# Altium schematic symbol library LASER_DIAGNOSTIC_BOARD.SCHLIB: 37 symbols
Pins are listed as number, name and electrical type; pins without a type are passive.

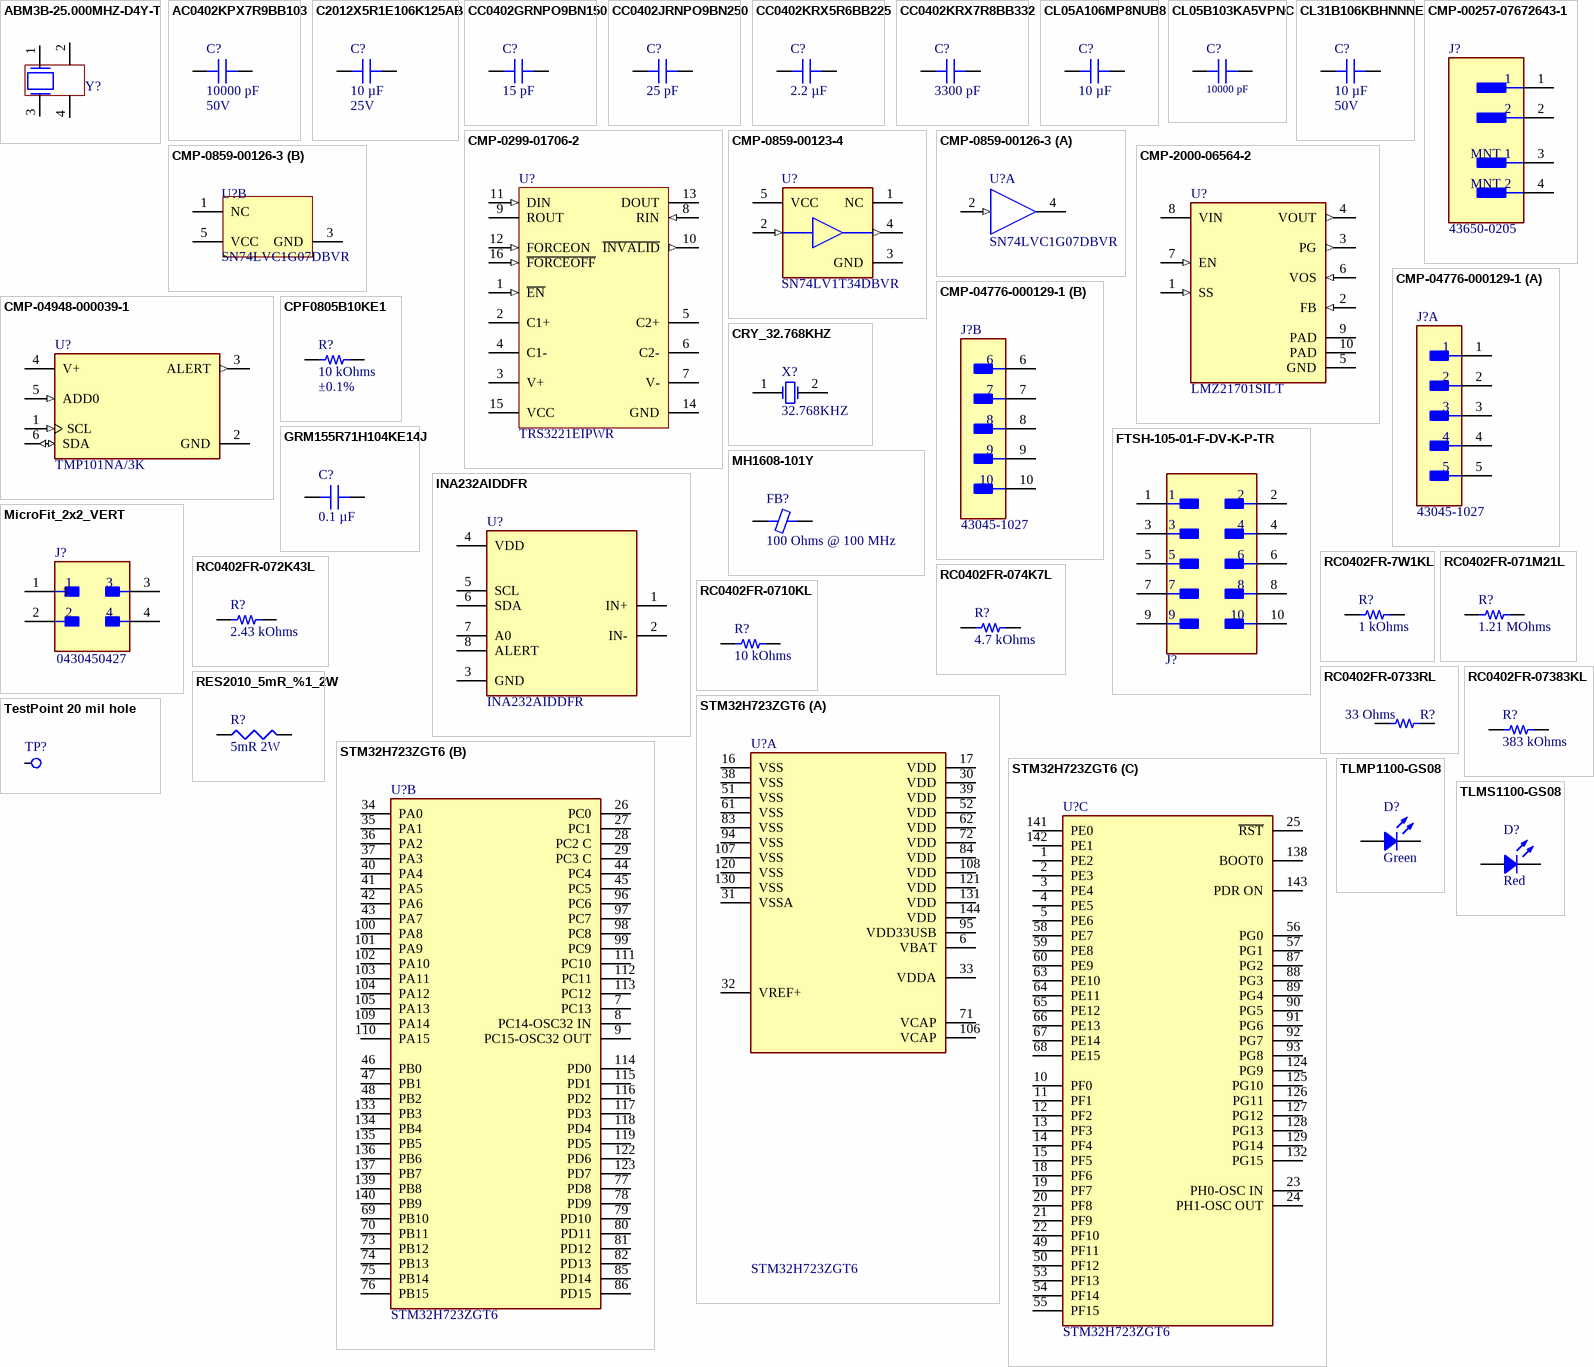
[diagram p0: symbols ABM3B-25.000MHZ-D4Y-T to TLMS1100-GS08]

## ABM3B-25.000MHZ-D4Y-T
designator Y?, comment CRYSTAL 25.0000MHZ 18PF SMD  (value not drawn)
25 MHz ±30ppm Crystal 18pF 50 Ohms 4-SMD, No Lead; Manufacturer Part Number: ABM3B-25.000MHZ-D4Y-T
footprint ABM3B8000MHZ101UT
pins: 1, 2, 3, 4

## AC0402KPX7R9BB103
designator C?, comment Voltage - Rated: 50V  (hidden comment: 10000 pF)
CAP CER 10000PF 50V X7R 0402; Part Number: AC0402KPX7R9BB103; manufacturer: Yageo; Tolerance: ±10%; Value: 10000 pF; Applications: Automotive; Capacitance: 10000 pF; componentlink1description: Datasheet; componentlink1url: http://www.yageo.com/documents/recent/UPY-AC_NP0X7R_16V-to-630V_12.pdf; componentlink2description: DigiKey Link; componentlink2url: https://www.digikey.com/en/products/detail/yageo/AC0402KPX7R9BB103/6643253; Device Package: 0402 (1005 Metric); lastupdated: 2/9/2024 8:04:36 PM; Lifecycle Status: Active; Minimum Order: 1; Mounting Type: Surface Mount, MLCC; Operating Temperature: -55°C ~ 125°C; Package / Case: 0402 (1005 Metric); packaging: TapeAndReel; partid: 2384; Part Status: Active; price: 0.01; Ratings: AEC-Q200; series: AC; Size / Dimension: 0.039" L x 0.020" W (1.00mm x 0.50mm); Supplier 1: DigiKey; Supplier Part Number 1: 311-3267-1-ND; Temperature Coefficient: X7R; Thickness (Max): 0.022" (0.55mm)
footprint CAP 0402_1005
pins: 1, 2

## C2012X5R1E106K125AB
designator C?, comment Voltage - Rated: 25V  (hidden comment: 10 µF)
CAP CER 10UF 25V X5R 0805; Part Number: C2012X5R1E106K125AB; manufacturer: TDK Corporation; Tolerance: ±10%; Value: 10 µF; Applications: General Purpose; Capacitance: 10 µF; componentlink1description: Datasheet; componentlink1url: https://product.tdk.com/info/en/catalog/datasheets/mlcc_commercial_general_en.pdf?ref_disty=digikey; componentlink2description: DigiKey Link; componentlink2url: https://www.digikey.com/en/products/detail/tdk-corporation/C2012X5R1E106K125AB/2443462; Device Package: 0805 (2012 Metric); Features: Low ESL; lastupdated: 5.05.2023 19:16:43; Lifecycle Status: Active; Minimum Order: 1; Mounting Type: Surface Mount, MLCC; Operating Temperature: -55°C ~ 85°C; Package / Case: 0805 (2012 Metric); packaging: TapeAndReel; partid: 4850; Part Status: Active; price: 0.06; series: C; Size / Dimension: 0.079" L x 0.049" W (2.00mm x 1.25mm); Supplier 1: DigiKey; Supplier Part Number 1: 445-5984-1-ND; Temperature Coefficient: X5R; Thickness (Max): 0.057" (1.45mm)
footprint CAP 0805_2012
pins: 1, 2

## CC0402GRNPO9BN150
designator C?, comment 15 pF
CAP CER 15PF 50V C0G/NPO 0402; Part Number: CC0402GRNPO9BN150; manufacturer: Yageo; Temperature Coefficient: C0G, NP0; Tolerance: ±2%; Value: 15 pF; Applications: General Purpose; Capacitance: 15 pF; componentlink1description: Datasheet; componentlink1url: https://www.yageo.com/upload/media/product/productsearch/datasheet/mlcc/UPY-GP_NP0_16V-to-50V_17.pdf; componentlink2description: DigiKey Link; componentlink2url: https://www.digikey.com/en/products/detail/yageo/CC0402GRNPO9BN150/5195058; Device Package: 0402 (1005 Metric); lastupdated: 2/9/2024 8:04:37 PM; Lifecycle Status: Active; Minimum Order: 10; Mounting Type: Surface Mount, MLCC; Operating Temperature: -55°C ~ 125°C; Package / Case: 0402 (1005 Metric); packaging: TapeAndReel; partid: 1901; Part Status: Active; price: 0.01; series: CC; Size / Dimension: 0.039" L x 0.020" W (1.00mm x 0.50mm); Supplier 1: DigiKey; Supplier Part Number 1: 311-1649-1-ND; Thickness (Max): 0.022" (0.55mm); Voltage - Rated: 50V
footprint CAP 0402_1005
pins: 1, 2

## CC0402JRNPO9BN250
designator C?, comment 25 pF
CAP CER 25PF 50V C0G/NPO 0402; Part Number: CC0402JRNPO9BN250; manufacturer: Yageo; Temperature Coefficient: C0G, NP0; Tolerance: ±5%; Value: 25 pF; Applications: General Purpose; Capacitance: 25 pF; componentlink1description: Datasheet; componentlink1url: https://www.yageo.com/upload/media/product/productsearch/datasheet/mlcc/UPY-GP_NP0_16V-to-50V_18.pdf; componentlink2description: DigiKey Link; componentlink2url: https://www.digikey.com/en/products/detail/yageo/CC0402JRNPO9BN250/11490290; Device Package: 0402 (1005 Metric); lastupdated: 2/9/2024 8:03:30 PM; Lifecycle Status: Active; Minimum Order: 10; Mounting Type: Surface Mount, MLCC; Operating Temperature: -55°C ~ 125°C; Package / Case: 0402 (1005 Metric); packaging: TapeAndReel; partid: 54610; Part Status: Active; price: 0.01; series: CC; Size / Dimension: 0.039" L x 0.020" W (1.00mm x 0.50mm); Supplier 1: DigiKey; Supplier Part Number 1: 13-CC0402JRNPO9BN250CT-ND; Voltage - Rated: 50V
footprint CAP 0402_1005
pins: 1, 2

## CC0402KRX5R6BB225
designator C?, comment 2.2 µF
CAP CER 2.2UF 10V X5R 0402; Part Number: CC0402KRX5R6BB225; manufacturer: Yageo; Tolerance: ±10%; Value: 2.2 µF; Applications: General Purpose; Capacitance: 2.2 µF; componentlink1description: Datasheet; componentlink1url: https://www.yageo.com/upload/media/product/productsearch/datasheet/mlcc/UPY-GPHC_X5R_4V-to-50V_25.pdf; componentlink2description: DigiKey Link; componentlink2url: https://www.digikey.com/en/products/detail/yageo/CC0402KRX5R6BB225/5195095; Device Package: 0402 (1005 Metric); lastupdated: 2/9/2024 8:04:16 PM; Lifecycle Status: Active; Minimum Order: 1; Mounting Type: Surface Mount, MLCC; Operating Temperature: -55°C ~ 85°C; Package / Case: 0402 (1005 Metric); packaging: TapeAndReel; partid: 27082; Part Status: Active; price: 0.01; series: CC; Size / Dimension: 0.039" L x 0.020" W (1.00mm x 0.50mm); Supplier 1: DigiKey; Supplier Part Number 1: 311-1686-1-ND; Temperature Coefficient: X5R; Thickness (Max): 0.022" (0.55mm); Voltage - Rated: 10V
footprint CAP 0402_1005
pins: 1, 2

## CC0402KRX7R8BB332
designator C?, comment 3300 pF
CAP CER 3300PF 25V X7R 0402; Part Number: CC0402KRX7R8BB332; manufacturer: Yageo; Tolerance: ±10%; Value: 3300 pF; Applications: General Purpose; Capacitance: 3300 pF; componentlink1description: Datasheet; componentlink1url: https://www.yageo.com/upload/media/product/productsearch/datasheet/mlcc/UPY-GPHC_X7R_6.3V-to-50V_18.pdf; componentlink2description: DigiKey Link; componentlink2url: https://www.digikey.com/en/products/detail/yageo/CC0402KRX7R8BB332/5883367; Device Package: 0402 (1005 Metric); lastupdated: 5.05.2023 19:05:28; Lifecycle Status: Active; Minimum Order: 1; Mounting Type: Surface Mount, MLCC; Operating Temperature: -55°C ~ 125°C; Package / Case: 0402 (1005 Metric); packaging: CutTape; partid: 2823; Part Status: Active; price: 0.01; series: CC; Size / Dimension: 0.039" L x 0.020" W (1.00mm x 0.50mm); Supplier 1: DigiKey; Supplier Part Number 1: 311-3623-1-ND; Temperature Coefficient: X7R; Thickness (Max): 0.022" (0.55mm); Voltage - Rated: 25V
footprint CAP 0402_1005
pins: 1, 2

## CL05A106MP8NUB8
designator C?, comment 10 µF
CAP CER 10UF 10V X5R 0402; Part Number: CL05A106MP8NUB8; manufacturer: Samsung Electro-Mechanics; Tolerance: ±20%; Value: 10 µF; Applications: Acoustic Noise Reduction; Capacitance: 10 µF; componentlink1description: Datasheet; componentlink1url: http://www.samsungsem.com/kr/support/product-search/mlcc/CL05A106MP8NUB8.jsp; componentlink2description: DigiKey Link; componentlink2url: https://www.digikey.com/en/products/detail/samsung-electro-mechanics/CL05A106MP8NUB8/5961314; Device Package: 0402 (1005 Metric); lastupdated: 5.05.2023 19:05:33; Lifecycle Status: Active; Minimum Order: 1; Mounting Type: Surface Mount, MLCC; Operating Temperature: -55°C ~ 85°C; Package / Case: 0402 (1005 Metric); packaging: TapeAndReel; partid: 1758; Part Status: Active; price: 0.06; series: CL; Size / Dimension: 0.039" L x 0.020" W (1.00mm x 0.50mm); Supplier 1: DigiKey; Supplier Part Number 1: 1276-6830-1-ND; Temperature Coefficient: X5R; Thickness (Max): 0.035" (0.90mm); Voltage - Rated: 10V
footprint CAP 0402_1005
pins: 1, 2

## CL05B103KA5VPNC
designator C?, comment 10000 pF
CAP CER 10000PF 25V X7R 0402; Part Number: CL05B103KA5VPNC; manufacturer: Samsung Electro-Mechanics; Tolerance: ±10%; Value: 10000 pF; Applications: Automotive; Capacitance: 10000 pF; componentlink1description: Datasheet; componentlink1url: http://www.samsungsem.com/kr/support/product-search/mlcc/CL05B103KA5VPNC.jsp; componentlink2description: DigiKey Link; componentlink2url: https://www.digikey.com/en/products/detail/samsung-electro-mechanics/CL05B103KA5VPNC/5961208; Device Package: 0402 (1005 Metric); lastupdated: 5.05.2023 19:05:32; Lifecycle Status: Active; Minimum Order: 1; Mounting Type: Surface Mount, MLCC; Operating Temperature: -55°C ~ 125°C; Package / Case: 0402 (1005 Metric); packaging: TapeAndReel; partid: 1881; Part Status: Active; price: 0.01; Ratings: AEC-Q200; series: CL; Size / Dimension: 0.039" L x 0.020" W (1.00mm x 0.50mm); Supplier 1: DigiKey; Supplier Part Number 1: 1276-6724-1-ND; Temperature Coefficient: X7R; Thickness (Max): 0.022" (0.55mm); Voltage - Rated: 25V
footprint CAP 0402_1005
pins: 1, 2

## CL31B106KBHNNNE
designator C?, comment Voltage - Rated: 50V  (hidden comment: 10 µF)
CAP CER 10UF 50V X7R 1206; Part Number: CL31B106KBHNNNE; manufacturer: Samsung Electro-Mechanics; Tolerance: ±10%; Value: 10 µF; Applications: General Purpose; Capacitance: 10 µF; componentlink1description: Datasheet; componentlink1url: http://www.samsungsem.com/kr/support/product-search/mlcc/CL31B106KBHNNNE.jsp; componentlink2description: DigiKey Link; componentlink2url: https://www.digikey.com/en/products/detail/samsung-electro-mechanics/CL31B106KBHNNNE/5961251; Device Package: 1206 (3216 Metric); lastupdated: 3/11/2024 7:11:27 AM; Lifecycle Status: Active; Minimum Order: 1; Mounting Type: Surface Mount, MLCC; Operating Temperature: -55°C ~ 125°C; Package / Case: 1206 (3216 Metric); packaging: TapeAndReel; partid: 40563; Part Status: Active; price: 0.06; series: CL; Size / Dimension: 0.126" L x 0.063" W (3.20mm x 1.60mm); Supplier 1: DigiKey; Supplier Part Number 1: 1276-6767-1-ND; Temperature Coefficient: X7R; Thickness (Max): 0.071" (1.80mm)
footprint CAP 1206_3216 - 0.8MM
pins: 1, 2

## CMP-00257-07672643-1
designator J?, comment 43650-0205
43650-0205 Conn Wire to Board HDR 2 POS 3mm Solder RA Side Entry Thru-Hole Micro-Fit 3.0™ Tray; Manufacturer Lifecycle Status: ACTIVE; NexarPartId: 7672643; Plating: Tin; Glow Wire Compliant: Compliant; Number of Contacts: 2; Gender: Male; Voltage Rating: 600V; Current Rating: 5A; Lifecycle Status: Production; RoHS: Compliant; Number of Rows: 1; Housing Material: Thermoplastic; Country of Origin: US; Number of Circuits: 2; Halogen Free: Low Halogen; Orientation: Right Angle; Termination: Through Hole; Pitch: 3mm; Contact Material: Brass; Contact Plating: Gold; Number of Positions: 2
footprint FP-43650-0205-MFG (Conn Wire to Board HDR 2 POS 3mm Solder RA Side Entry Thru-Hole Micro-Fit 3.0™ Tray)
pins: 1, 2, 3 MNT 1, 4 MNT 2

## CMP-0299-01706-2
designator U?, comment TRS3221EIPWR
3-V to 5.5-V Single-Channel RS-232 Line Driver / Receiver with ±15-kV IEC ESD Protection, -40 to 85 degC, 16-Pin TSSOP (PW),  Green (RoHS & no Sb/Br); IEC-61000-4-2 SUPPORT: TRUE; Supply Voltage(s)(V): 3.3 or 5.0; Receivers Per Package: 1; ESD HBM(kV): +/-15; ComponentLink3Description: Package Specification; PackageDescription: 16-Pin Plastic Thin Small Outline Package 5 x 4.4 mm Body ,0.65 mm Pitch; SubFamily: RS-232; PackageVersion: revG, Feb-2011; ComponentLink2URL: http://www.ti.com/general/docs/lit/getliterature.tsp?genericPartNumber=TRS3221E&fileType=pdf; DatasheetVersion: SLLS792; ComponentLink1URL: www.ti.com; ComponentLink3URL: http://www.ti.com/litv/pdf/mpds361; ComponentLink1Description: Manufacturer URL; RS-232: TRUE; ComponentLink2Description: Datasheet; ICC(Max)(mA): 1; Single Supply: TRUE; Drivers Per Package: 1; PackageReference: PW0016A
footprint PW0016A_N (SOP, 16-Leads, Body 5.1x4.5mm, Pitch 0.65mm, IPC Medium Density)
footprint PW0016A_M (SOP, 16-Leads, Body 5.1x4.5mm, Pitch 0.65mm, IPC Low Density)
footprint PW0016A_L (SOP, 16-Leads, Body 5.1x4.5mm, Pitch 0.65mm, IPC High Density)
pins: 1 ~{EN} (in), 2 C1+, 3 V+ (power), 4 C1-, 5 C2+, 6 C2-, 7 V- (power), 8 RIN (in), 9 ROUT (hiz), 10 ~{INVALID} (out), 11 DIN (in), 12 FORCEON (in), 13 DOUT (hiz), 14 GND (power), 15 VCC (power), 16 ~{FORCEOFF} (in)

## CMP-0859-00123-4
designator U?, comment SN74LV1T34DBVR
IC BUF NON-INVERT 5.5V SOT23-5; Low Level Output Current: 8mA; Polarity: Non-Inverting; Number of Channels: 1; Propagation Delay: 15.5ns; High Level Output Current: -8mA; Quiescent Current: 1uA; Logic Function: Buffer; Min Supply Voltage: 1.6V; Min Operating Temperature: -40°C; Package Quantity: 3000; Max Operating Temperature: 125°C; Operating Supply Current: 8mA; Radiation Hardening: No; REACH SVHC: No SVHC; Number of Bits per Element: 1; Mount: Surface Mount; Number of Outputs: 1; Lead Free: Lead Free; Number of Pins: 5; Weight: 0.000353oz; Number of Output Lines: 1; Number of Elements: 1; Number of Input Lines: 1; Number of Bits: 1; Case/Package: SOT-23-5; Packaging: Tape and Reel; Max Supply Voltage: 5.5V; Number of Inputs: 1
footprint FP-DBV0005A-IPC_B
footprint FP-DBV0005A-MFG
footprint FP-DBV0005A-IPC_C
footprint FP-DBV0005A-IPC_A
pins: 1 NC, 2 A (in), 3 GND (power), 4 Y (out), 5 VCC (power)

## CMP-0859-00126-3
designator U?, comment SN74LVC1G07DBVR
Single Buffer/Driver With Open-Drain Output, DBV0005A, LARGE T&R; Manufacturer: Texas Instruments; Voltage(Nom)(V): 1.8,2.5,3.3,5; tpd @ Nom Voltage(Max)(ns): 8.6,6,4.7,4; Rating: Catalog; VCC(Max)(V): 5.5; Technology Family: LVC; F @ Nom Voltage(Max)(Mhz): 150; 3-State Output: No; Output Type: CMOS; VCC(Min)(V): 1.65; Input Type: CMOS/TTL; Sub-Family: Non-Inverting Buffer/Driver; Bits(#): 1; ICC @ Nom Voltage(Max)(mA): 0.01; Output Drive (IOL/IOH)(Max)(mA): 32/-32; Logic: True; PackageReference: DBV0005A; Generic Part Number: SN74LVC1G07; DatasheetVersion: SCES296AC; Schmitt Trigger: No; Operating Temperature Range(C): -40 to 125,-40 to 85
footprint DBV0005A_M (SOT23, 5-Leads, Body 3.05x1.75mm, Pitch 0.95mm, IPC Low Density)
footprint DBV0005A_N (SOT23, 5-Leads, Body 3.05x1.75mm, Pitch 0.95mm, IPC Medium Density)
footprint DBV0005A_L (SOT23, 5-Leads, Body 3.05x1.75mm, Pitch 0.95mm, IPC High Density)
part A pins: 2 A (in) "Input A", 4 Y (oc) "Output Y"
part B pins: 1 NC "No Connection", 3 GND (power) "Ground Pin", 5 VCC (power) "Power Pin"

## CMP-2000-06564-2
designator U?, comment LMZ21701SILT
DC DC CONVERTER 0.9-6V 6W; Output Voltage: 6V; Min Output Voltage: 900mV; Efficiency: 95%; Output Current: 1A; Max Input Voltage: 17V; Output Type: Adjustable; Min Input Voltage: 3V; Number of Outputs: 1; Switching Frequency: 2.5MHz; Packaging: Cut Tape; Voltage - Output 1: 6V; Min Operating Temperature: -40°C; Number of Pins: 8; Max Output Current: 1A; Mount: Surface Mount; Features: UVLO; Operating Supply Voltage: 17V; Height: 0.07inch; Case/Package: SMD/SMT; Length: 0.14inch; Lead Free: Lead Free; REACH SVHC: No SVHC; Max Operating Temperature: 125°C; Width: 0.14inch; Max Output Voltage: 6V
footprint FP-SIL0008E-MFG
pins: 1 SS (in), 2 FB (in), 3 PG (out), 4 VOUT (out), 5 GND (power), 6 VOS (in), 7 EN (in), 8 VIN (power), 9 PAD (power), 10 PAD (power)

## CMP-04776-000129-1
designator J?, comment 43045-1027
CONN HEADER VERT 10POS 3MM; Gender: Male; Glow Wire Compliant: Compliant; Number of Positions: 10; Voltage Rating (DC): 250V; Current Rating: 5A; Max Voltage Rating (DC): 250.25kV; Contact Resistance: 10mR; Voltage Rating: 600V; Insulation Resistance: 1GR; Package Quantity: 1224; Pitch: 3mm; Mount: Through Hole; Number of Circuits: 10; Packaging: Tray; Housing Material: Thermoplastic; Color: Black; Number of Contacts: 10; Contact Material: Brass; Orientation: Vertical; Min Operating Temperature: -40°C; Contact Plating: Tin; Radiation Hardening: No; Series: 43045; RoHS Compliant: Yes; Termination: Through Hole; Max Operating Temperature: 105°C; Flammability Rating: UL94 V-0; Halogen Free: Low Halogen; Number of Rows: 2; Row Spacing: 3mm
footprint FP-43045-1027-MFG
part A pins: 1, 2, 3, 4, 5
part B pins: 6, 7, 8, 9, 10

## CMP-04948-000039-1
designator U?, comment TMP101NA/3K
SENSOR DIGITAL -55C-125C SOT23-6; Operating Supply Current: 75uA; Output Current: 4mA; Max Supply Voltage (DC): 5.5V; Number of Bits: 12; Output Type: I2C; Min Supply Voltage (DC): 2.7V; Resolution: 12b; Quiescent Current: 45uA; Package Quantity: 3000; RoHS Compliant: Yes; Max Supply Voltage: 5.5V; Packaging: Tape and Reel; Mount: Surface Mount; Min Supply Voltage: 2.7V; Max Operating Temperature: 125°C; Radiation Hardening: No; Lead Free: Lead Free; Min Operating Temperature: -55°C; Interface: I2C; Series: TMP101; Contact Plating: Gold; Case/Package: SOT-23-6
footprint FP-DBV0006A-IPC_A
footprint FP-DBV0006A-IPC_C
footprint FP-DBV0006A-MFG
footprint FP-DBV0006A-IPC_B
pins: 1 SCL (in), 2 GND (power), 3 ALERT (out), 4 V+ (power), 5 ADD0 (in), 6 SDA (io)

## CPF0805B10KE1
designator R?, comment Tolerance: ±0.1%  (hidden comment: 10 kOhms)
RES SMD 10K OHM 0.1% 1/10W 0805; Part Number: CPF0805B10KE1; Manufacturer: TE Connectivity Passive Product; Power (Watts): 0.1W, 1/10W; Temperature Coefficient: ±25ppm/°C; Value: 10 kOhms; ComponentLink1Description: Datasheet; ComponentLink1URL: https://www.te.com/commerce/DocumentDelivery/DDEController?Action=srchrtrv&DocNm=1773200&DocType=DS&DocLang=English; ComponentLink2Description: DigiKey Link; ComponentLink2URL: https://www.digikey.com/en/products/detail/te-connectivity-passive-product/CPF0805B10KE1/2382053; Composition: Thin Film; Device Package: 0805 (2012 Metric); Height - Seated (Max): 0.026" (0.65mm); LastUpdated: 2/8/2024 9:02:36 PM; Lifecycle Status: Active; Minimum Order: 1; Number of Terminations: 2; Operating Temperature: -55°C ~ 155°C; Package / Case: 0805 (2012 Metric); Packaging: TapeAndReel; PartId: 28440; Part Status: Active; Price: 0.12; Resistance: 10 kOhms; Series: CPF, Neohm; Size / Dimension: 0.079" L x 0.049" W (2.00mm x 1.25mm); Supplier 1: DigiKey; Supplier Part Number 1: A103142CT-ND; Supplier Device Package: 0805
footprint RES 0805_2012
pins: 1, 2

## CRY_32.768KHZ
designator X?, comment value 32.768KHZ  (hidden comment: CRYSTAL 32.7680KHZ 12.5PF SMD)
32.768 kHz ±20ppm Crystal 12.5pF 70 kOhms 2-SMD, No Lead; Manufacturer Part Number: CM7V-T1A-32.768KHZ-12.5PF-20PPM-TB-QA; Order Code: DIGI : 2195-CM7V-T1A-32.768KHZ-12.5PF-20PPM-TB-QACT-ND
footprint CRY_ABS07 (0.126" L x 0.059" W (3.20mm x 1.50mm))
pins: 1 OSC1, 2 OSC2

## FTSH-105-01-F-DV-K-P-TR
designator J?  (value not drawn)
Connector Header Surface Mount 10 position 0.050" (1.27mm); Manufacturer Name: Samtec Inc.; Pitch - Mating: 0.050(1.27mm); Number of Positions: 10; Manufacturer Part Number: FTSH-105-01-F-DV-K-P-TR; Number of Rows: 2
footprint Samtec_0_MFG
pins: 1, 2, 3, 4, 5, 6, 7, 8, 9, 10

## GRM155R71H104KE14J
designator C?, comment 0.1 µF
CAP CER 0.1UF 50V X7R 0402; Part Number: GRM155R71H104KE14J; manufacturer: Murata Electronics; Tolerance: ±10%; Value: 0.1 µF; Applications: General Purpose; Capacitance: 0.1 µF; componentlink1description: Datasheet; componentlink1url: https://search.murata.co.jp/Ceramy/image/img/A01X/G101/ENG/GRM155R71H104KE14-01.pdf; componentlink2description: DigiKey Link; componentlink2url: https://www.digikey.com/en/products/detail/murata-electronics/GRM155R71H104KE14J/4905180; Device Package: 0402 (1005 Metric); lastupdated: 7/15/2023 7:03:45 PM; Lifecycle Status: Active; Minimum Order: 1; Mounting Type: Surface Mount, MLCC; Operating Temperature: -55°C ~ 125°C; Package / Case: 0402 (1005 Metric); packaging: CutTape; partid: 4071; Part Status: Active; price: 0.01; series: GRM; Size / Dimension: 0.039" L x 0.020" W (1.00mm x 0.50mm); Supplier 1: DigiKey; Supplier Part Number 1: 490-13342-1-ND; Temperature Coefficient: X7R; Thickness (Max): 0.022" (0.55mm); Voltage - Rated: 50V
footprint CAP 0402_1005
pins: 1, 2

## INA232AIDDFR
designator U?, comment Manufacturer Part Number: INA232AIDDFR  (hidden comment: IC CURRENT MONITOR 0.3% TSOT23-8)
Current Monitor Regulator High/Low-Side TSOT-23-8-8
footprint SOT23-8
pins: 1 IN+, 2 IN-, 3 GND, 4 VDD, 5 SCL, 6 SDA, 7 A0, 8 ALERT

## MH1608-101Y
designator FB?, comment 100 Ohms @ 100 MHz
FERRITE BEAD 100 OHM 0603 1LN; Part Number: MH1608-101Y; Manufacturer: Bourns Inc.; Current Rating (Max): 3A; DC Resistance (DCR) (Max): 40mOhm; Filter Type: Power, Signal Line; Number of Lines: 1; ComponentLink1Description: Datasheet; ComponentLink1URL: https://www.bourns.com/docs/Product-Datasheets/mh.pdf; ComponentLink2Description: DigiKey Link; ComponentLink2URL: https://www.digikey.com/en/products/detail/bourns-inc/MH1608-101Y/2563310; Device Package: 0603 (1608 Metric); Height (Max): 0.039" (1.00mm); Impedance @ Frequency: 100 Ohms @ 100 MHz; LastUpdated: 5/9/2023 8:13:07 PM; Lifecycle Status: Active; Minimum Order: 1; Mounting Type: Surface Mount; Operating Temperature: -55°C ~ 125°C; Package / Case: 0603 (1608 Metric); Packaging: TapeAndReel; PartId: 645; Part Status: Active; Price: 0.02; Series: MH; Size / Dimension: 0.063" L x 0.032" W (1.60mm x 0.80mm); Supplier 1: DigiKey; Supplier Part Number 1: MH1608-101YCT-ND; Value: 100 Ohms @ 100 MHz
footprint FER 0603_1608
pins: 1, 2

## MicroFit_2x2_VERT
designator J?, comment Manufacturer Part Number: 0430450427  (hidden comment: CONN HEADER VERT 4POS 3MM)
Connector Header Through Hole 4 position 0.118" (3.00mm); Manufacturer: Molex
footprint MicroFit_2x2_VERT
pins: 1, 2, 3, 4

## RC0402FR-7W1KL
designator R?, comment 1 kOhms
RES 1K OHM 1% 1/8W 0402; Part Number: RC0402FR-7W1KL; Manufacturer: Yageo; Power (Watts): 0.125W, 1/8W; Temperature Coefficient: ±200ppm/°C; Value: 1 kOhms; ComponentLink1Description: Datasheet; ComponentLink1URL: https://www.yageo.com/upload/media/product/productsearch/datasheet/rchip/PYu-RC_Group_51_RoHS_L_11.pdf; ComponentLink2Description: DigiKey Link; ComponentLink2URL: https://www.digikey.com/en/products/detail/yageo/RC0402FR-7W1KL/12698822; Composition: Thick Film; Device Package: 0402 (1005 Metric); Features: Moisture Resistant; Height - Seated (Max): 0.016" (0.40mm); LastUpdated: 30.04.2023 19:23:54; Lifecycle Status: Active; Minimum Order: 1; Number of Terminations: 2; Operating Temperature: -55°C ~ 155°C; Package / Case: 0402 (1005 Metric); Packaging: CutTape; PartId: 59088; Part Status: Active; Price: 0.01; Resistance: 1 kOhms; Series: RC_L; Size / Dimension: 0.039" L x 0.020" W (1.00mm x 0.50mm); Supplier 1: DigiKey; Supplier Part Number 1: 13-RC0402FR-7W1KLCT-ND; Supplier Device Package: 0402; Tolerance: ±1%
footprint RES 0402_1005
pins: 1, 2

## RC0402FR-071M21L
designator R?, comment 1.21 MOhms
RES 1.21M OHM 1% 1/16W 0402; Part Number: RC0402FR-071M21L; Manufacturer: Yageo; Power (Watts): 0.063W, 1/16W; Temperature Coefficient: ±100ppm/°C; Value: 1.21 MOhms; ComponentLink1Description: Datasheet; ComponentLink1URL: https://www.yageo.com/upload/media/product/productsearch/datasheet/rchip/PYu-RC_Group_51_RoHS_L_11.pdf; ComponentLink2Description: DigiKey Link; ComponentLink2URL: https://www.digikey.com/en/products/detail/yageo/RC0402FR-071M21L/5917561; Composition: Thick Film; Device Package: 0402 (1005 Metric); Features: Moisture Resistant; Height - Seated (Max): 0.016" (0.40mm); LastUpdated: 5.05.2023 19:28:55; Lifecycle Status: Active; Minimum Order: 1; Number of Terminations: 2; Operating Temperature: -55°C ~ 155°C; Package / Case: 0402 (1005 Metric); Packaging: CutTape; PartId: 65025; Part Status: Active; Price: 0.01; Resistance: 1.21 MOhms; Series: RC_L; Size / Dimension: 0.039" L x 0.020" W (1.00mm x 0.50mm); Supplier 1: DigiKey; Supplier Part Number 1: 13-RC0402FR-071M21LCT-ND; Supplier Device Package: 0402; Tolerance: ±1%
footprint RES 0402_1005
pins: 1, 2

## RC0402FR-072K43L
designator R?, comment 2.43 kOhms
RES 2.43K OHM 1% 1/16W 0402; Part Number: RC0402FR-072K43L; Manufacturer: Yageo; Power (Watts): 0.063W, 1/16W; Temperature Coefficient: ±100ppm/°C; Value: 2.43 kOhms; ComponentLink1Description: Datasheet; ComponentLink1URL: https://www.yageo.com/upload/media/product/productsearch/datasheet/rchip/PYu-RC_Group_51_RoHS_L_10.pdf; ComponentLink2Description: DigiKey Link; ComponentLink2URL: https://www.digikey.com/en/products/detail/yageo/RC0402FR-072K43L/5280961; Composition: Thick Film; Device Package: 0402 (1005 Metric); Features: Moisture Resistant; Height - Seated (Max): 0.016" (0.40mm); LastUpdated: 6/8/2023 7:32:28 PM; Lifecycle Status: Active; Minimum Order: 1; Number of Terminations: 2; Operating Temperature: -55°C ~ 155°C; Package / Case: 0402 (1005 Metric); Packaging: CutTape; PartId: 2807; Part Status: Active; Price: 0.01; Resistance: 2.43 kOhms; Series: RC_L; Size / Dimension: 0.039" L x 0.020" W (1.00mm x 0.50mm); Supplier 1: DigiKey; Supplier Part Number 1: YAG3101CT-ND; Supplier Device Package: 0402; Tolerance: ±1%
footprint RES 0402_1005
pins: 1, 2

## RC0402FR-074K7L
designator R?, comment 4.7 kOhms
RES 4.7K OHM 1% 1/16W 0402; Part Number: RC0402FR-074K7L; Manufacturer: Yageo; Power (Watts): 0.063W, 1/16W; Temperature Coefficient: ±100ppm/°C; Value: 4.7 kOhms; ComponentLink1Description: Datasheet; ComponentLink1URL: https://www.yageo.com/upload/media/product/productsearch/datasheet/rchip/PYu-RC_Group_51_RoHS_L_10.pdf; ComponentLink2Description: DigiKey Link; ComponentLink2URL: https://www.digikey.com/en/products/detail/yageo/RC0402FR-074K7L/2827563; Composition: Thick Film; Device Package: 0402 (1005 Metric); Features: Moisture Resistant; Height - Seated (Max): 0.016" (0.40mm); LastUpdated: 5.05.2023 19:29:30; Lifecycle Status: Active; Minimum Order: 1; Number of Terminations: 2; Operating Temperature: -55°C ~ 155°C; Package / Case: 0402 (1005 Metric); Packaging: CutTape; PartId: 17603; Part Status: Active; Price: 0.01; Resistance: 4.7 kOhms; Series: RC_L; Size / Dimension: 0.039" L x 0.020" W (1.00mm x 0.50mm); Supplier 1: DigiKey; Supplier Part Number 1: 311-4.7KLRCT-ND; Supplier Device Package: 0402; Tolerance: ±1%
footprint RES 0402_1005
pins: 1, 2

## RC0402FR-0710KL
designator R?, comment 10 kOhms
RES 10K OHM 1% 1/16W 0402; Part Number: RC0402FR-0710KL; Manufacturer: Yageo; Power (Watts): 0.063W, 1/16W; Temperature Coefficient: ±100ppm/°C; Value: 10 kOhms; ComponentLink1Description: Datasheet; ComponentLink1URL: https://www.yageo.com/upload/media/product/productsearch/datasheet/rchip/PYu-RC_Group_51_RoHS_L_10.pdf; ComponentLink2Description: DigiKey Link; ComponentLink2URL: https://www.digikey.com/en/products/detail/yageo/RC0402FR-0710KL/726523; Composition: Thick Film; Device Package: 0402 (1005 Metric); Features: Moisture Resistant; Height - Seated (Max): 0.016" (0.40mm); LastUpdated: 30.04.2023 19:24:29; Lifecycle Status: Active; Minimum Order: 1; Number of Terminations: 2; Operating Temperature: -55°C ~ 155°C; Package / Case: 0402 (1005 Metric); Packaging: CutTape; PartId: 17593; Part Status: Active; Price: 0.01; Resistance: 10 kOhms; Series: RC_L; Size / Dimension: 0.039" L x 0.020" W (1.00mm x 0.50mm); Supplier 1: DigiKey; Supplier Part Number 1: 311-10.0KLRCT-ND; Supplier Device Package: 0402; Tolerance: ±1%
footprint RES 0402_1005
pins: 1, 2

## RC0402FR-0733RL
designator R?, comment 33 Ohms
RES 33 OHM 1% 1/16W 0402; Part Number: RC0402FR-0733RL; Manufacturer: Yageo; Power (Watts): 0.063W, 1/16W; Temperature Coefficient: ±100ppm/°C; Value: 33 Ohms; ComponentLink1Description: Datasheet; ComponentLink1URL: https://www.yageo.com/upload/media/product/productsearch/datasheet/rchip/PYu-RC_Group_51_RoHS_L_10.pdf; ComponentLink2Description: DigiKey Link; ComponentLink2URL: https://www.digikey.com/en/products/detail/yageo/RC0402FR-0733RL/726593; Composition: Thick Film; Device Package: 0402 (1005 Metric); Features: Moisture Resistant; Height - Seated (Max): 0.016" (0.40mm); LastUpdated: 5/11/2023 7:33:03 PM; Lifecycle Status: Active; Minimum Order: 1; Number of Terminations: 2; Operating Temperature: -55°C ~ 155°C; Package / Case: 0402 (1005 Metric); Packaging: CutTape; PartId: 20555; Part Status: Active; Price: 0.01; Resistance: 33 Ohms; Series: RC_L; Size / Dimension: 0.039" L x 0.020" W (1.00mm x 0.50mm); Supplier 1: DigiKey; Supplier Part Number 1: 311-33.0LRCT-ND; Supplier Device Package: 0402; Tolerance: ±1%
footprint RES 0402_1005
pins: 1, 2

## RC0402FR-07383KL
designator R?, comment 383 kOhms
RES 383K OHM 1% 1/16W 0402; Part Number: RC0402FR-07383KL; Manufacturer: Yageo; Power (Watts): 0.063W, 1/16W; Temperature Coefficient: ±100ppm/°C; Value: 383 kOhms; ComponentLink1Description: Datasheet; ComponentLink1URL: https://www.yageo.com/upload/media/product/productsearch/datasheet/rchip/PYu-RC_Group_51_RoHS_L_10.pdf; ComponentLink2Description: DigiKey Link; ComponentLink2URL: https://www.digikey.com/en/products/detail/yageo/RC0402FR-07383KL/5280999; Composition: Thick Film; Device Package: 0402 (1005 Metric); Features: Moisture Resistant; Height - Seated (Max): 0.016" (0.40mm); LastUpdated: 5.05.2023 19:29:24; Lifecycle Status: Active; Minimum Order: 1; Number of Terminations: 2; Operating Temperature: -55°C ~ 155°C; Package / Case: 0402 (1005 Metric); Packaging: CutTape; PartId: 19022; Part Status: Active; Price: 0.01; Resistance: 383 kOhms; Series: RC_L; Size / Dimension: 0.039" L x 0.020" W (1.00mm x 0.50mm); Supplier 1: DigiKey; Supplier Part Number 1: YAG3139CT-ND; Supplier Device Package: 0402; Tolerance: ±1%
footprint RES 0402_1005
pins: 1, 2

## RES2010_5mR_%1_2W
designator R?, comment value 5mR 2W  (hidden comment: RES 0.005 OHM 1% 2W 2010)
5 mOhms ±1% 2W Chip Resistor 2010 (5025 Metric) Anti-Sulfur, Automotive AEC-Q200, Current Sense, Moisture Resistant, Pulse Withstanding Metal Element; Manufacturer Part Number: WSLP20105L000FEA; Order Code: DIGI : 541-10107-1-ND
footprint RES2010
pins: 1, 2

## STM32H723ZGT6
designator U?
ARM® Cortex®-M7 STM32H7 Microcontroller IC 32-Bit Single-Core 550MHz 1MB (1M x 8) FLASH 144-LQFP (20x20); Manufacturer Name: STMicroelectronics; Manufacturer Part Number: STM32H723ZGT6
footprint STMicroelectronics_LQFP144-1A_IPC_A
part A pins: 6 VBAT (power), 16 VSS (power), 17 VDD (power), 30 VDD (power), 31 VSSA (power), 32 VREF+ (power), 33 VDDA (power), 38 VSS (power), 39 VDD (power), 51 VSS (power), 52 VDD (power), 61 VSS (power), 62 VDD (power), 71 VCAP (power), 72 VDD (power), 83 VSS (power), 84 VDD (power), 94 VSS (power), 95 VDD33USB (power), 106 VCAP (power), 107 VSS (power), 108 VDD (power), 120 VSS (power), 121 VDD (power), 130 VSS (power), 131 VDD (power), 144 VDD (power)
part B pins: 7 PC13, 8 PC14-OSC32 IN, 9 PC15-OSC32 OUT, 26 PC0, 27 PC1, 28 PC2 C, 29 PC3 C, 34 PA0, 35 PA1, 36 PA2, 37 PA3, 40 PA4, 41 PA5, 42 PA6, 43 PA7, 44 PC4, 45 PC5, 46 PB0, 47 PB1, 48 PB2, 69 PB10, 70 PB11, 73 PB12, 74 PB13, 75 PB14, 76 PB15, 77 PD8, 78 PD9, 79 PD10, 80 PD11, 81 PD12, 82 PD13, 85 PD14, 86 PD15, 96 PC6, 97 PC7, 98 PC8, 99 PC9, 100 PA8, 101 PA9, 102 PA10, 103 PA11, 104 PA12, 105 PA13, 109 PA14, 110 PA15, 111 PC10, 112 PC11, 113 PC12, 114 PD0, 115 PD1, 116 PD2, 117 PD3, 118 PD4, 119 PD5, 122 PD6, 123 PD7, 133 PB3, 134 PB4, 135 PB5, 136 PB6, 137 PB7, 139 PB8, 140 PB9
part C pins: 1 PE2, 2 PE3, 3 PE4, 4 PE5, 5 PE6, 10 PF0, 11 PF1, 12 PF2, 13 PF3, 14 PF4, 15 PF5, 18 PF6, 19 PF7, 20 PF8, 21 PF9, 22 PF10, 23 PH0-OSC IN, 24 PH1-OSC OUT, 25 ~{RST}, 49 PF11, 50 PF12, 53 PF13, 54 PF14, 55 PF15, 56 PG0, 57 PG1, 58 PE7, 59 PE8, 60 PE9, 63 PE10, 64 PE11, 65 PE12, 66 PE13, 67 PE14, 68 PE15, 87 PG2, 88 PG3, 89 PG4, 90 PG5, 91 PG6, 92 PG7, 93 PG8, 124 PG9, 125 PG10, 126 PG11, 127 PG12, 128 PG13, 129 PG14, 132 PG15, 138 BOOT0, 141 PE0, 142 PE1, 143 PDR ON

## TestPoint 20 mil hole
designator TP?, comment Test Point 20 mil  (value not drawn)
Manufacturer: CAD; Manufacturer Part#: TP; COST: $0.00
footprint Testpoint_VIA_6040
pins: 1

## TLMP1100-GS08
designator D?, comment Green
LED GREEN 0603 SMD; Part Number: TLMP1100-GS08; Manufacturer: Vishay Semiconductor Opto Division; Configuration: Standard; Current - Test: 20mA; Lens Color: 0.65mm; Lens Size: 1.60mm x 0.80mm; Lens Style: Rectangle with Flat Top; Millicandela Rating: 15mcd; Viewing Angle: 160°; Voltage - Forward (Vf) (Typ): 2.1V; Wavelength - Dominant: 561nm; Wavelength - Peak: 562nm; Color: Green; ComponentLink1Description: Datasheet; ComponentLink1URL: http://www.vishay.com/docs/83173/tlmb1100.pdf; ComponentLink2Description: DigiKey Link; ComponentLink2URL: https://www.digikey.com/en/products/detail/vishay-semiconductor-opto-division/TLMP1100-GS08/1681311; Device Package: 0603 (1608 Metric); Height (Max): 0.65mm; LastUpdated: 3/11/2024 7:51:09 AM; Lifecycle Status: Active; Minimum Order: 1; Mounting Type: Surface Mount; Package / Case: 0603 (1608 Metric); Packaging: TapeAndReel; PartId: 692; Part Status: Active; Price: 0.11; Series: Automotive, AEC-Q101; Size / Dimension: 1.60mm L x 0.80mm W; Supplier 1: DigiKey; Supplier Part Number 1: 751-1176-1-ND; Supplier Device Package: 0603; Value: Green
footprint LED 0603_1608 GREEN
pins: 1, 2

## TLMS1100-GS08
designator D?, comment Red
LED RED 0603 SMD; Part Number: TLMS1100-GS08; Manufacturer: Vishay Semiconductor Opto Division; Configuration: Standard; Current - Test: 20mA; Lens Color: 0.65mm; Lens Size: 1.60mm x 0.80mm; Lens Style: Rectangle with Flat Top; Millicandela Rating: 63mcd; Viewing Angle: 160°; Voltage - Forward (Vf) (Typ): 2.1V; Wavelength - Dominant: 633nm; Wavelength - Peak: 645nm; Color: Red; ComponentLink1Description: Datasheet; ComponentLink1URL: http://www.vishay.com/docs/83173/tlmb1100.pdf; ComponentLink2Description: DigiKey Link; ComponentLink2URL: https://www.digikey.com/en/products/detail/vishay-semiconductor-opto-division/TLMS1100-GS08/1681317; Device Package: 0603 (1608 Metric); Height (Max): 0.65mm; LastUpdated: 3/11/2024 7:52:03 AM; Lifecycle Status: Active; Minimum Order: 1; Mounting Type: Surface Mount; Package / Case: 0603 (1608 Metric); Packaging: TapeAndReel; PartId: 492; Part Status: Active; Price: 0.09; Series: Automotive, AEC-Q101; Size / Dimension: 1.60mm L x 0.80mm W; Supplier 1: DigiKey; Supplier Part Number 1: 751-1182-1-ND; Supplier Device Package: 0603; Value: Red
footprint LED 0603_1608 RED
pins: 1, 2

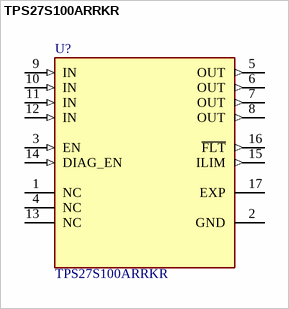
[diagram p1: symbol TPS27S100ARRKR]

## TPS27S100ARRKR
designator U?
Power Switch/Driver 1:1 N-Channel 13A 16-WQFN (4x3.5); MF: {'manufacturer': u'Texas Instruments'}; Package: None; Price: None; Value: *; MP: TPS27S100ARRKR; Availability: Unavailable
footprint IC_TPS27S100ARRKR
pins: 1 NC, 2 GND (power), 3 EN (in), 4 NC, 5 OUT (out), 6 OUT (out), 7 OUT (out), 8 OUT (out), 9 IN (in), 10 IN (in), 11 IN (in), 12 IN (in), 13 NC, 14 DIAG_EN (in), 15 ILIM (out), 16 ~{FLT} (out), 17 EXP